# Altium schematic symbol library JFD_IC.SchLib: 20 symbols
Pins are listed as number, name and electrical type; pins without a type are passive.

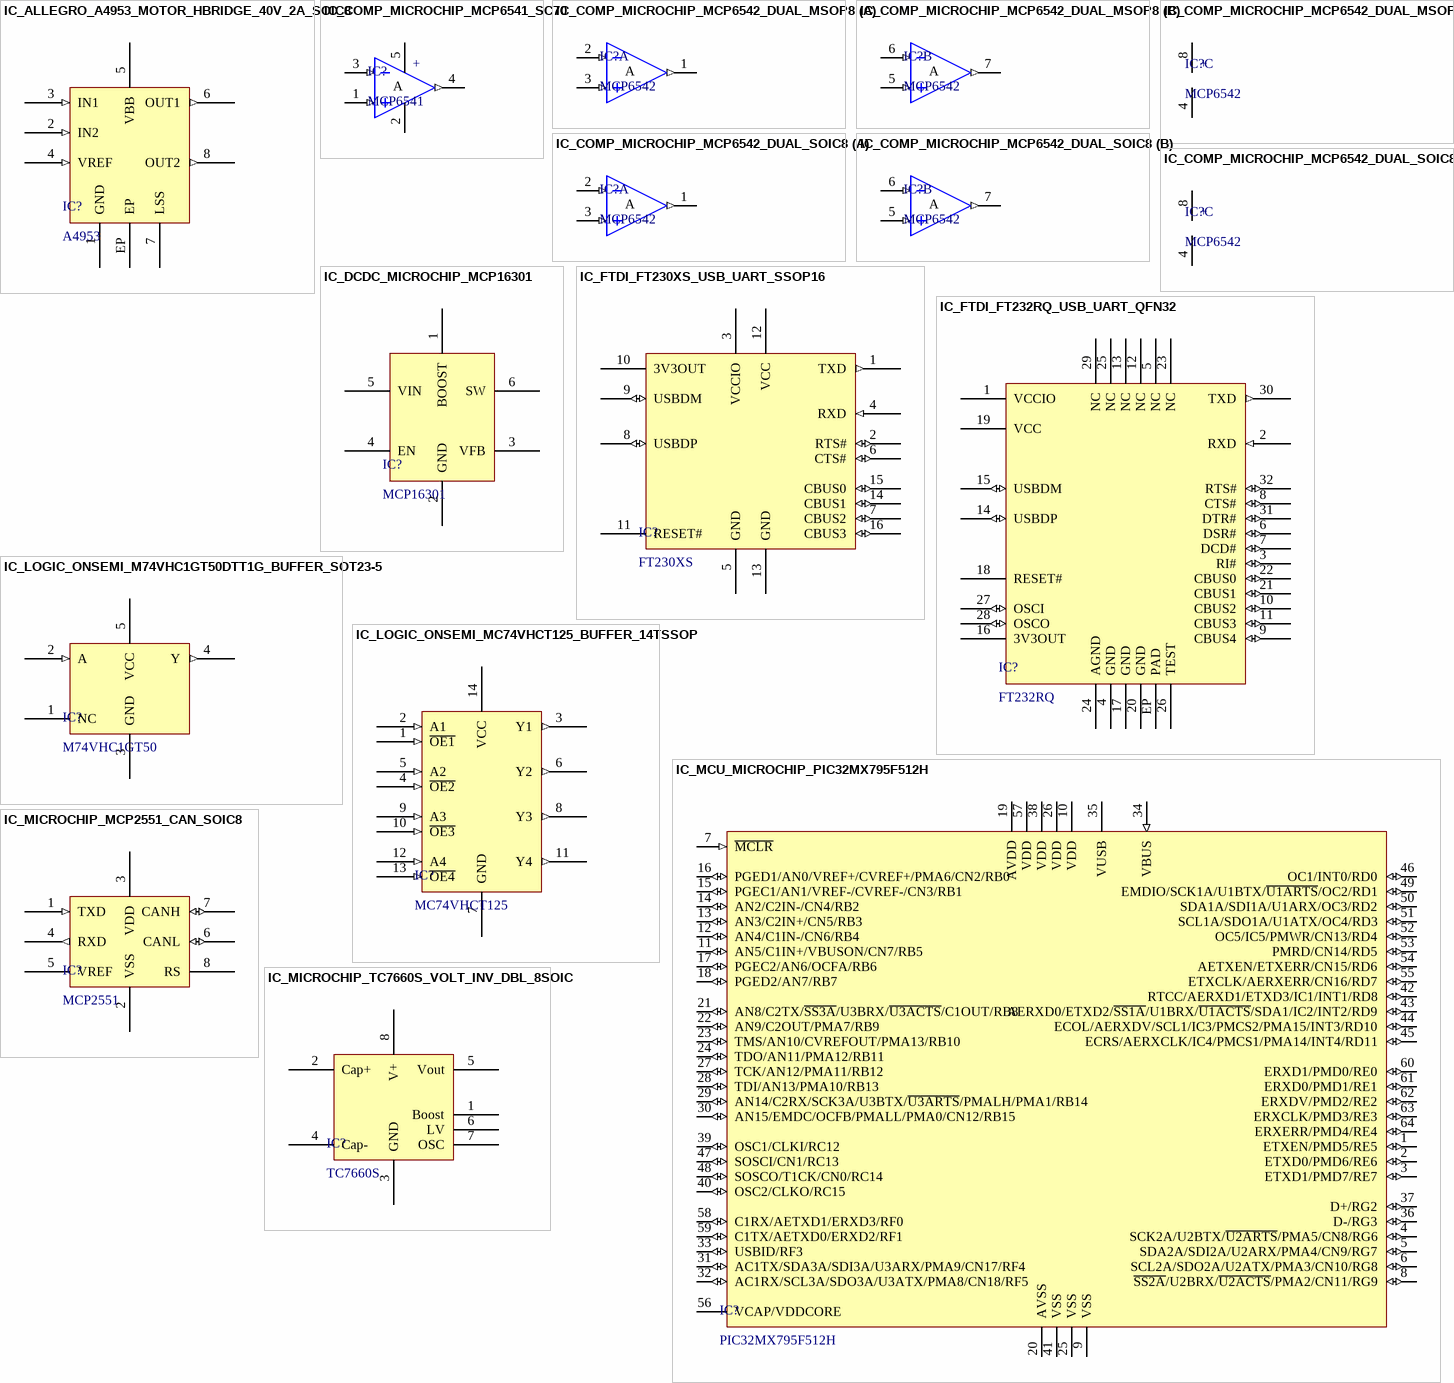
[diagram p0: symbols IC_ALLEGRO_A4953_MOTOR_HBRIDGE_40V_2A_SOIC8 to IC_MICROCHIP_TC7660S_VOLT_INV_DBL_8SOIC]

## IC_ALLEGRO_A4953_MOTOR_HBRIDGE_40V_2A_SOIC8
designator IC?, comment A4953
IC PWM MOTOR DVR FULL 8SOIC; MfgPartNumber: A4953ELJTR-T; Mfg: Allegro Microsystems Inc; Value: A4953; Digikey: 620-1428-1-ND
footprint SOIC-8_PAD
pins: 1 GND (power), 2 IN2 (in), 3 IN1 (in), 4 VREF (in), 5 VBB (power), 6 OUT1 (out), 7 LSS (power), 8 OUT2 (out), EP (power)

## IC_COMP_MICROCHIP_MCP6541_SC70
designator IC?, comment MCP6541
IC COMP 1.6V SNGL P-P SC70-5; MfgPartNumber: MCP6541UT-I/LT; Mfg: Microchip Technology; Value: MCP6541; Digikey: MCP6541UT-I/LTCT-ND
footprint SC70-5
pins: 1 IN+ (in), 2 VSS (power), 3 IN- (in), 4 OUT (out), 5 VDD (power)
text: +; A

## IC_COMP_MICROCHIP_MCP6542_DUAL_MSOP8
designator IC?, comment MCP6542
IC COMP 1.6V DUAL P-P 8SOIC; MfgPartNumber: MCP6542-E/MS; Mfg: Microchip Technology; Value: MCP6542; Digikey: MCP6542-E/MS-ND
footprint MSOP-8
part A pins: 1 OUT (out), 2 IN- (in), 3 IN+ (in)
part B pins: 5 IN+ (in), 6 IN- (in), 7 OUT (out)
part C pins: 4 VSS (power), 8 VDD (power)
part A text: A
part B text: A
part C text: +

## IC_COMP_MICROCHIP_MCP6542_DUAL_SOIC8
designator IC?, comment MCP6542
IC COMP 1.6V DUAL P-P 8SOIC; MfgPartNumber: MCP6542-E/SN; Mfg: Microchip Technology; Value: MCP6542; Digikey: MCP6542-E/SN-ND
footprint SOIC-8
part A pins: 1 OUT (out), 2 IN- (in), 3 IN+ (in)
part B pins: 5 IN+ (in), 6 IN- (in), 7 OUT (out)
part C pins: 4 VSS (power), 8 VDD (power)
part A text: A
part B text: A
part C text: +

## IC_DCDC_MICROCHIP_MCP16301
designator IC?, comment MCP16301
IC REG BUCK ADJ 0.6A SOT23-6; MfgPartNumber: MCP16301T-I/CHY; Mfg: Microchip Technology; Value: MCP16301; Digikey: MCP16301T-I/CHYCT-ND
footprint SOT23-6
pins: 1 BOOST, 2 GND, 3 VFB, 4 EN, 5 VIN, 6 SW

## IC_FTDI_FT230XS_USB_UART_SSOP16
designator IC?, comment FT230XS
IC USB ERIAL BASIC UART SSOP-16; Mfg: FTDI; MfgPartNumber: FT230XS; Value: FT230XS; Digikey: 768-1135-1-ND
footprint SSOP16
pins: 1 TXD (out), 2 RTS# (io), 3 VCCIO (power), 4 RXD (in), 5 GND (power), 6 CTS# (io), 7 CBUS2 (io), 8 USBDP (io), 9 USBDM (io), 10 3V3OUT (power), 11 RESET#, 12 VCC (power), 13 GND (power), 14 CBUS1 (io), 15 CBUS0 (io), 16 CBUS3 (io)

## IC_FTDI_FT232RQ_USB_UART_QFN32
designator IC?, comment FT232RQ
IC USB FS SERIAL UART 32-QFN; Mfg: FTDI; MfgPartNumber: FT232RQ; Value: FT232RQ; Digikey: 768-1008-1-ND
footprint QFN-32
pins: 1 VCCIO (power), 2 RXD (in), 3 RI# (io), 4 GND (power), 5 NC, 6 DSR# (io), 7 DCD# (io), 8 CTS# (io), 9 CBUS4 (io), 10 CBUS2 (io), 11 CBUS3 (io), 12 NC, 13 NC, 14 USBDP (io), 15 USBDM (io), 16 3V3OUT (power), 17 GND (power), 18 RESET#, 19 VCC (power), 20 GND (power), 21 CBUS1 (io), 22 CBUS0 (io), 23 NC, 24 AGND (power), 25 NC, 26 TEST, 27 OSCI (io), 28 OSCO (io), 29 NC, 30 TXD (out), 31 DTR# (io), 32 RTS# (io), EP PAD

## IC_LOGIC_ONSEMI_M74VHC1GT50DTT1G_BUFFER_SOT23-5
designator IC?, comment M74VHC1GT50
IC BUFF CMOS LVL/SFTR N-I SOT235; MfgPartNumber: M74VHC1GT50DTT1G; Mfg: ON Semiconductor; Value: M74VHC1GT50; Digikey: M74VHC1GT50DTT1GOSCT-ND
footprint SOT23-5
pins: 1 NC, 2 A (in), 3 GND (power), 4 Y (out), 5 VCC (power)

## IC_LOGIC_ONSEMI_MC74VHCT125_BUFFER_14TSSOP
designator IC?, comment MC74VHCT125
IC BUS BUFF TRI-ST QUAD 14TSSOP; MfgPartNumber: MC74VHCT125ADTRGOSCT-ND; Mfg: ON Semiconductor; Value: MC74VHCT125; Digikey: MC74VHCT125ADTRGOSCT-ND
footprint TSSOP14
pins: 1 ~{OE1} (in), 2 A1 (in), 3 Y1 (out), 4 ~{OE2} (in), 5 A2 (in), 6 Y2 (out), 7 GND (power), 8 Y3 (out), 9 A3 (in), 10 ~{OE3} (in), 11 Y4 (out), 12 A4 (in), 13 ~{OE4} (in), 14 VCC (power)

## IC_MCU_MICROCHIP_PIC32MX795F512H
designator IC?, comment PIC32MX795F512H
IC MCU 32BIT 512KB FLASH 64TQFP; MfgPartNumber: PIC32MX795F512H-80I/PT; Mfg: Microchip Technology; Value: PIC32MX795F512H; Digikey: PIC32MX795F512H-80I/PT-ND
footprint TQFP-64 (TQFP 64 pins, 10x10mm, 0.5mm pitch)
pins: 1 ETXEN/PMD5/RE5 (io), 2 ETXD0/PMD6/RE6 (io), 3 ETXD1/PMD7/RE7 (io), 4 SCK2A/U2BTX/~{U2ARTS}/PMA5/CN8/RG6 (io), 5 SDA2A/SDI2A/U2ARX/PMA4/CN9/RG7 (io), 6 SCL2A/SDO2A/U2ATX/PMA3/CN10/RG8 (io), 7 ~{MCLR} (in), 8 ~{SS2A}/U2BRX/~{U2ACTS}/PMA2/CN11/RG9 (io), 9 VSS (power), 10 VDD (power), 11 AN5/C1IN+/VBUSON/CN7/RB5 (io), 12 AN4/C1IN-/CN6/RB4 (io), 13 AN3/C2IN+/CN5/RB3 (io), 14 AN2/C2IN-/CN4/RB2 (io), 15 PGEC1/AN1/VREF-/CVREF-/CN3/RB1 (io), 16 PGED1/AN0/VREF+/CVREF+/PMA6/CN2/RB0 (io), 17 PGEC2/AN6/OCFA/RB6 (io), 18 PGED2/AN7/RB7 (io), 19 AVDD (power), 20 AVSS (power), 21 AN8/C2TX/~{SS3A}/U3BRX/~{U3ACTS}/C1OUT/RB8 (io), 22 AN9/C2OUT/PMA7/RB9 (io), 23 TMS/AN10/CVREFOUT/PMA13/RB10 (io), 24 TDO/AN11/PMA12/RB11 (io), 25 VSS (power), 26 VDD (power), 27 TCK/AN12/PMA11/RB12 (io), 28 TDI/AN13/PMA10/RB13 (io), 29 AN14/C2RX/SCK3A/U3BTX/~{U3ARTS}/PMALH/PMA1/RB14 (io), 30 AN15/EMDC/OCFB/PMALL/PMA0/CN12/RB15 (io), 31 AC1TX/SDA3A/SDI3A/U3ARX/PMA9/CN17/RF4 (io), 32 AC1RX/SCL3A/SDO3A/U3ATX/PMA8/CN18/RF5 (io), 33 USBID/RF3 (io), 34 VBUS (in), 35 VUSB (power), 36 D-/RG3 (io), 37 D+/RG2 (io), 38 VDD (power), 39 OSC1/CLKI/RC12 (io), 40 OSC2/CLKO/RC15 (io), 41 VSS (power), 42 RTCC/AERXD1/ETXD3/IC1/INT1/RD8 (io), 43 AERXD0/ETXD2/~{SS1A}/U1BRX/~{U1ACTS}/SDA1/IC2/INT2/RD9 (io), 44 ECOL/AERXDV/SCL1/IC3/PMCS2/PMA15/INT3/RD10 (io), 45 ECRS/AERXCLK/IC4/PMCS1/PMA14/INT4/RD11 (io), 46 OC1/INT0/RD0 (io), 47 SOSCI/CN1/RC13 (io), 48 SOSCO/T1CK/CN0/RC14 (io), 49 EMDIO/SCK1A/U1BTX/~{U1ARTS}/OC2/RD1 (io), 50 SDA1A/SDI1A/U1ARX/OC3/RD2 (io), 51 SCL1A/SDO1A/U1ATX/OC4/RD3 (io), 52 OC5/IC5/PMWR/CN13/RD4 (io), 53 PMRD/CN14/RD5 (io), 54 AETXEN/ETXERR/CN15/RD6 (io), 55 ETXCLK/AERXERR/CN16/RD7 (io), 56 VCAP/VDDCORE (power), 57 VDD (power), 58 C1RX/AETXD1/ERXD3/RF0 (io), 59 C1TX/AETXD0/ERXD2/RF1 (io), 60 ERXD1/PMD0/RE0 (io), 61 ERXD0/PMD1/RE1 (io), 62 ERXDV/PMD2/RE2 (io), 63 ERXCLK/PMD3/RE3 (io), 64 ERXERR/PMD4/RE4 (io)

## IC_MICROCHIP_MCP2551_CAN_SOIC8
designator IC?, comment MCP2551
IC TRANSCEIVER CAN HI-SPD 8-SOIC; MfgPartNumber: MCP2551-I/SN; Mfg: Microchip Technology; Value: MCP2551; Digikey: MCP2551-I/SN-ND
footprint SOIC-8
pins: 1 TXD (in), 2 VSS (power), 3 VDD (power), 4 RXD (out), 5 VREF, 6 CANL (io), 7 CANH (io), 8 RS

## IC_MICROCHIP_TC7660S_VOLT_INV_DBL_8SOIC
designator IC?, comment TC7660S
IC CHRG PUMP INV ADJ 20MA 8SOIC; MfgPartNumber: TC7660SEOA; Mfg: Microchip Technology; Value: TC7660S; Digikey: TC7660SEOA713CT-ND
footprint SOIC-8
pins: 1 Boost, 2 Cap+, 3 GND (power), 4 Cap-, 5 Vout, 6 LV, 7 OSC, 8 V+ (power)

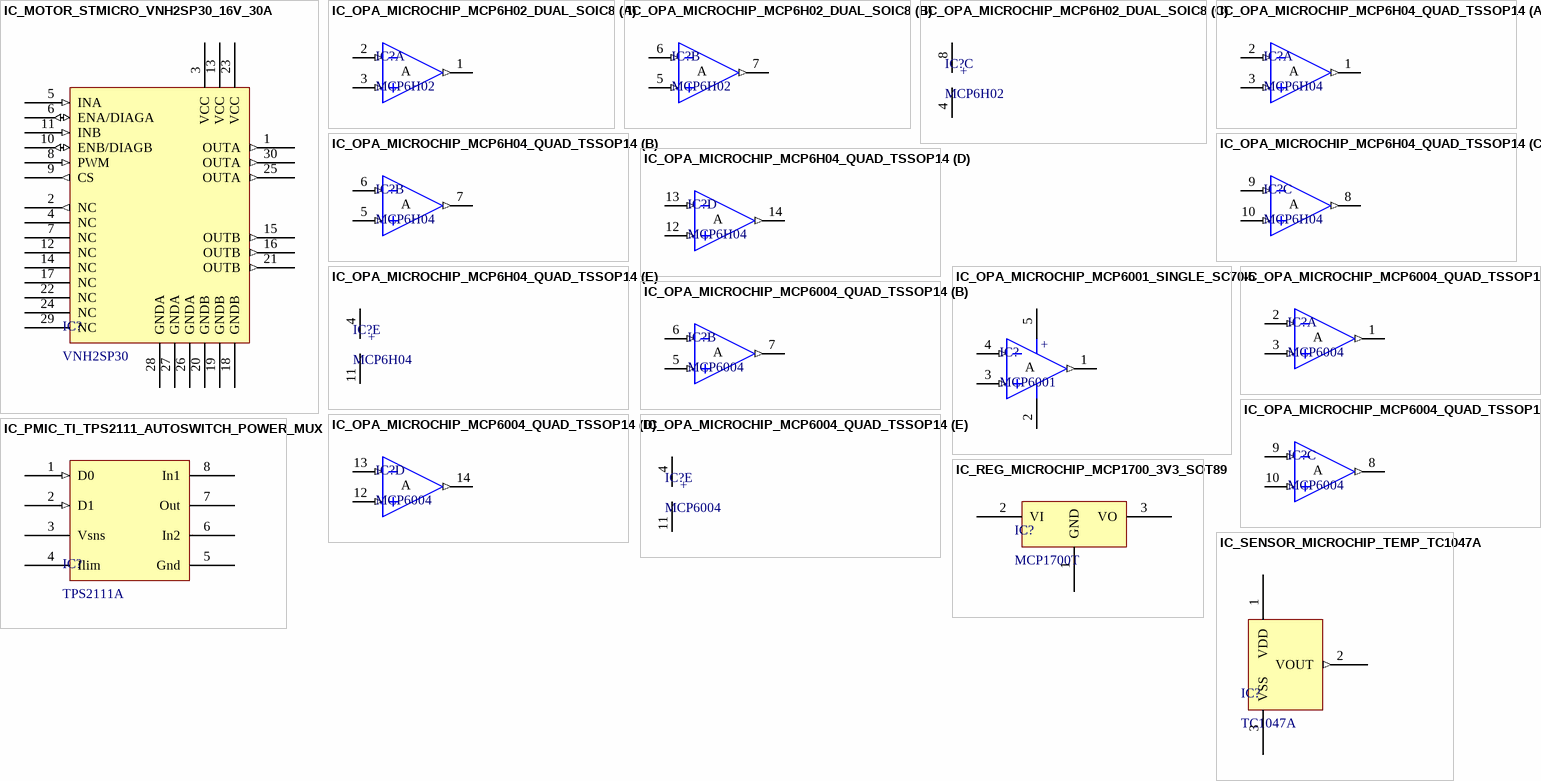
[diagram p1: symbols IC_MOTOR_STMICRO_VNH2SP30_16V_30A to IC_SENSOR_MICROCHIP_TEMP_TC1047A]

## IC_MOTOR_STMICRO_VNH2SP30_16V_30A
designator IC?, comment VNH2SP30
IC DRIVER MOTOR H BRIDGE; MfgPartNumber: VNH2SP30TR-E; Mfg: STMicroelectronics; Value: VNH2SP30; Digikey: 497-4501-1-ND
footprint MultiPowerSO-30
pins: 1 OUTA (out), 2 NC (out), 3 VCC (power), 4 NC, 5 INA (in), 6 ENA/DIAGA (io), 7 NC, 8 PWM (in), 9 CS (out), 10 ENB/DIAGB (io), 11 INB (in), 12 NC, 13 VCC (power), 14 NC, 15 OUTB (out), 16 OUTB (out), 17 NC, 18 GNDB (power), 19 GNDB (power), 20 GNDB (power), 21 OUTB (out), 22 NC, 23 VCC (power), 24 NC, 25 OUTA (out), 26 GNDA (power), 27 GNDA (power), 28 GNDA (power), 29 NC, 30 OUTA (out)

## IC_OPA_MICROCHIP_MCP6H02_DUAL_SOIC8
designator IC?, comment MCP6H02
IC OP AMP 16V 1.2MHZ SNGL 8SOIC; MfgPartNumber: MCP6H02-E/SN; Mfg: Microchip Technology; Value: MCP6H02; Digikey: MCP6H02-E/SN-ND
footprint SOIC-8
part A pins: 1 OUT (out), 2 IN- (in), 3 IN+ (in)
part B pins: 5 IN+ (in), 6 IN- (in), 7 OUT (out)
part C pins: 4 VSS (power), 8 VDD (power)
part A text: A
part B text: A
part C text: +

## IC_OPA_MICROCHIP_MCP6H04_QUAD_TSSOP14
designator IC?, comment MCP6H04
IC OPAMP QUAD16V 1.2MHZ 14TSSOP; MfgPartNumber: MCP6H04-E/ST; Mfg: Microchip Technology; Value: MCP6H04; Digikey: MCP6H04-E/ST-ND
footprint TSSOP14
part A pins: 1 OUT (out), 2 IN- (in), 3 IN+ (in)
part B pins: 5 IN+ (in), 6 IN- (in), 7 OUT (out)
part C pins: 8 OUT (out), 9 IN- (in), 10 IN+ (in)
part D pins: 12 IN+ (in), 13 IN- (in), 14 OUT (out)
part E pins: 4 VDD (power), 11 VSS (power)
part A text: A
part B text: A
part C text: A
part D text: A
part E text: +

## IC_OPA_MICROCHIP_MCP6001_SINGLE_SC70-5
designator IC?, comment MCP6001
IC OPAMP 1.8V 1MHZ SINGLE SC70-5; MfgPartNumber: MCP6001T-I/LT; Mfg: Microchip Technology; Value: MCP6001; Digikey: MCP6001T-I/LTCT-ND
footprint SC70-5
pins: 1 OUT (out), 2 VSS (power), 3 IN+ (in), 4 IN- (in), 5 VDD (power)
text: +; A

## IC_OPA_MICROCHIP_MCP6004_QUAD_TSSOP14
designator IC?, comment MCP6004
IC OPAMP QUAD 1.8V 14TSSOP; MfgPartNumber: MCP6004-I/ST; Mfg: Microchip Technology; Value: MCP6004; Digikey: MCP6004-I/ST-ND
footprint TSSOP14
part A pins: 1 OUT (out), 2 IN- (in), 3 IN+ (in)
part B pins: 5 IN+ (in), 6 IN- (in), 7 OUT (out)
part C pins: 8 OUT (out), 9 IN- (in), 10 IN+ (in)
part D pins: 12 IN+ (in), 13 IN- (in), 14 OUT (out)
part E pins: 4 VDD (power), 11 VSS (power)
part A text: A
part B text: A
part C text: A
part D text: A
part E text: +

## IC_PMIC_TI_TPS2111_AUTOSWITCH_POWER_MUX
designator IC?, comment TPS2111A
IC AUTOSWITCH POWER MUX 8-TSSOP; MfgPartNumber: TPS2111APWR; Mfg: Texas Instruments; Value: TPS2111A; Digikey: 296-16936-1-ND
footprint TSSOP-8
pins: 1 D0 (in), 2 D1 (in), 3 Vsns, 4 Ilim, 5 Gnd (power), 6 In2 (power), 7 Out (power), 8 In1 (power)

## IC_REG_MICROCHIP_MCP1700_3V3_SOT89
designator IC?, comment MCP1700T
IC REG LDO 3.3V 250MA SOT-89-3; MfgPartNumber: MCP1700T-3302E/MB; Mfg: Microchip Technology; Value: MCP1700T; Digikey: MCP1700T3302EMBCT-ND
footprint SOT89-3
pins: 1 GND, 2 VI, 3 VO

## IC_SENSOR_MICROCHIP_TEMP_TC1047A
designator IC?, comment TC1047A
IC TEMP-VOLT CONV PREC SOT-23B; MfgPartNumber: TC1047AVNBTR; Mfg: Microchip Technology; Value: TC1047A; Digikey: TC1047AVNBCT-ND
footprint SOT23-3
pins: 1 VDD (power), 2 VOUT (out), 3 VSS (power)